# Altium footprint library PcbLib1.PcbLib: 4 footprints
Each footprint in its own frame and in the unit in brackets; x right, y up, seen from the top. Pads: shape width x height; smd on the part's side, far side on the other; paste and mask are expansions set on the pad; w line width, h text height; cw(c..) or ccw(c..) is an arc to the next point about the centre after c.
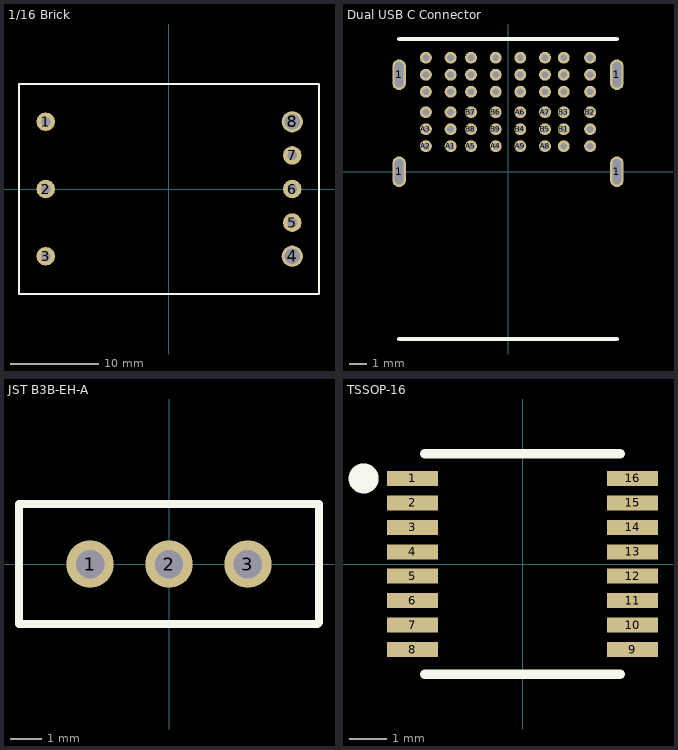
[diagram p0: the footprints below, top view; thin cyan lines are the x and y axes]

## 1/16 Brick [mm]
height 8.8
pads (8):
  round 2.1 hole 1.1: 1(-13.97,7.62) 2(-13.97,0) 3(-13.97,-7.62) 5(13.97,-3.81) 6(13.97,0) 7(13.97,3.81)
  round 2.4 hole 1.75: 4(13.97,-7.62) 8(13.97,7.62)
Top Overlay:
  lines w0.254: -17,-11.9 17,-11.9 17,11.9 -17,11.9 -17,-11.9
3D body "DC-DC.STEP": height 8.07, standoff -3.7, extent -16.55,-11.4 16.45,11.4

## Dual USB C Connector [mm] "USB-C31-D-RA-CS2"
pads (52):
  oval 0.8x1.8 hole 0.5 slot 1.5 at 90 deg: 1(-6.4,0) 1(-6.4,5.7) 1(6.4,0) 1(6.4,5.7)
  round 0.7 hole 0.4: 2A1(-3.375,4.7) 2A2(-4.825,4.7) 2A3(-4.825,5.7) 2A4(-0.725,4.7) 2A5(-2.175,4.7) 2A6(0.725,6.7) 2A7(2.175,6.7) 2A8(2.175,4.7) 2A9(0.725,4.7) 2A10(4.825,5.7) 2A11(4.825,4.7) 2A12(3.275,4.7) 2B1(3.275,5.7) 2B2(4.825,6.7) 2B3(3.275,6.7) 2B4(0.725,5.7) 2B5(2.175,5.7) 2B6(-0.725,6.7) 2B7(-2.175,6.7) 2B8(-2.175,5.7) 2B9(-0.725,5.7) 2B10(-3.375,6.7) 2B11(-4.825,6.7) 2B12(-3.375,5.7) A1(-3.375,1.5) A2(-4.825,1.5) A3(-4.825,2.5) A4(-0.725,1.5) A5(-2.175,1.5) A6(0.725,3.5) A7(2.175,3.5) A8(2.175,1.5) A9(0.725,1.5) A10(4.825,2.5) A11(4.825,1.5) A12(3.275,1.5) B1(3.275,2.5) B2(4.825,3.5) B3(3.275,3.5) B4(0.725,2.5) B5(2.175,2.5) B6(-0.725,3.5) B7(-2.175,3.5) B8(-2.175,2.5) B9(-0.725,2.5) B10(-3.375,3.5) B11(-4.825,3.5) B12(-3.375,2.5)
Top Overlay:
  lines w0.254: -6.4,-9.83 6.4,-9.83 ; -6.4,7.8 6.4,7.8
3D body "Dual USB C.STEP": height 15.4, standoff -2.32, extent -6.5,-9.825 6.5,7.875

## JST B3B-EH-A [mm]
pads (3):
  round 1.5 hole 0.9: 1(-2.5,0) 2(0,0) 3(2.5,0)
Top Overlay:
  lines w0.254: -4.75,1.9 -4.75,-1.9 4.7,-1.9 4.75,-1.85 4.75,1.905 -4.75,1.905
3D body "B3B-EH-A.STEP": height 6, standoff -3.2, extent -5,-2.2 5,1.6

## TSSOP-16 [mm]
pads (16):
  rect 1.35x0.4 smd: 1(-2.925,2.275) 2(-2.925,1.625) 3(-2.925,0.975) 4(-2.925,0.325) 5(-2.925,-0.325) 6(-2.925,-0.975) 7(-2.925,-1.625) 8(-2.925,-2.275) 9(2.925,-2.275) 10(2.925,-1.625) 11(2.925,-0.975) 12(2.925,-0.325) 13(2.925,0.325) 14(2.925,0.975) 15(2.925,1.625) 16(2.925,2.275)
Top Overlay:
  circle w0.5: c-4.225,2.275 r0.15
  lines w0.254: -2.6,-2.925 2.6,-2.925 ; -2.6,2.925 2.6,2.925